# EAGLE library part 87758-2616 (library con-molex_sgq)
26 Pin - 2mm Dual Row Single Wafer, Vertical T/H HDR Source: http://www.molex.com/pdm_docs/sd/877580616_sd.pdf
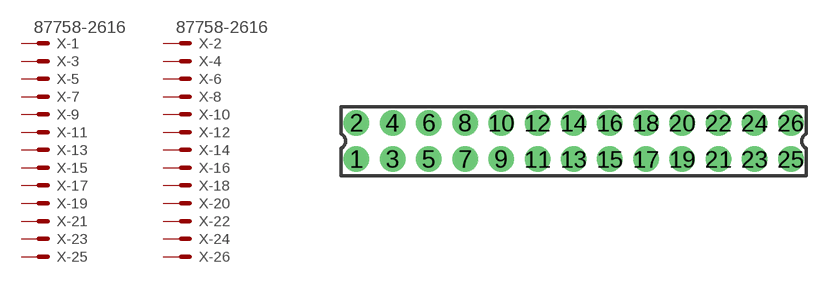
[diagram p192: symbol with the pads of 87758-2616; footprint 87758-2616]

Designator prefix X; gates -1=MV -2=MV -3=M -4=M -5=M -6=M -7=M -8=M -9=M -10=M -11=M -12=M -13=M -14=M -15=M -16=M -17=M -18=M -19=M -20=M -21=M -22=M -23=M -24=M -25=M -26=M

## 87758-2616 (MF: MOLEX; MPN: 87758-2616; OC_FARNELL: unknown; OC_NEWARK: 94M1541)  [87758-2616]
1  -1:S  pas
2  -2:S  pas
3  -3:S  pas
4  -4:S  pas
5  -5:S  pas
6  -6:S  pas
7  -7:S  pas
8  -8:S  pas
9  -9:S  pas
10  -10:S  pas
11  -11:S  pas
12  -12:S  pas
13  -13:S  pas
14  -14:S  pas
15  -15:S  pas
16  -16:S  pas
17  -17:S  pas
18  -18:S  pas
19  -19:S  pas
20  -20:S  pas
21  -21:S  pas
22  -22:S  pas
23  -23:S  pas
24  -24:S  pas
25  -25:S  pas
26  -26:S  pas

## Footprint 87758-2616 (pad centres in mm)
2.00mm Pitch Milli-Grid™ Header, Through Hole, Vertical, 26 Circuits, 0.38µm Gold (Au) Selective Plating, Pocket Tray Packaging, Lead-Free Datasheet <http://www.molex.com/pdm_docs/sd/877582616_sd.pdf>
drill 0.9 pad 1.27: 1 -12,-1; 2 -12,1; 3 -10,-1; 4 -10,1; 5 -8,-1; 6 -8,1; 7 -6,-1; 8 -6,1; 9 -4,-1; 10 -4,1; 11 -2,-1; 12 -2,1; 13 0,-1; 14 0,1; 15 2,-1; 16 2,1; 17 4,-1; 18 4,1; 19 6,-1; 20 6,1; 21 8,-1; 22 8,1; 23 10,-1; 24 10,1; 25 12,-1; 26 12,1